# Altium schematic symbol library HT66FU50.SchLib: 2 symbols
Pins are listed as number, name and electrical type; pins without a type are passive.

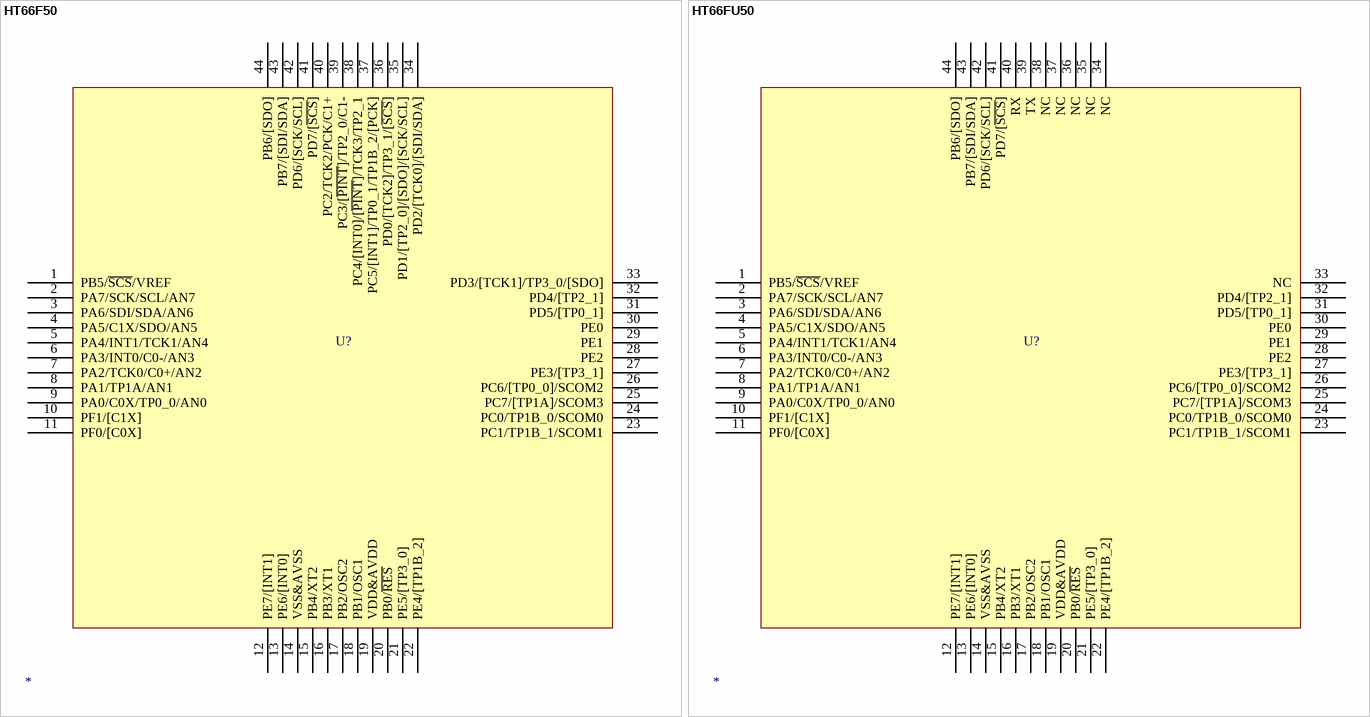
[diagram p0: symbols HT66F50 to HT66FU50]

## HT66F50
designator U?
Name: *
pins: 1 PB5/~{SCS}/VREF, 2 PA7/SCK/SCL/AN7, 3 PA6/SDI/SDA/AN6, 4 PA5/C1X/SDO/AN5, 5 PA4/INT1/TCK1/AN4, 6 PA3/INT0/C0-/AN3, 7 PA2/TCK0/C0+/AN2, 8 PA1/TP1A/AN1, 9 PA0/C0X/TP0_0/AN0, 10 PF1/[C1X], 11 PF0/[C0X], 12 PE7/[INT1], 13 PE6/[INT0], 14 VSS&AVSS, 15 PB4/XT2, 16 PB3/XT1, 17 PB2/OSC2, 18 PB1/OSC1, 19 VDD&AVDD, 20 PB0/~{RES}, 21 PE5/[TP3_0], 22 PE4/[TP1B_2], 23 PC1/TP1B_1/SCOM1, 24 PC0/TP1B_0/SCOM0, 25 PC7/[TP1A]/SCOM3, 26 PC6/[TP0_0]/SCOM2, 27 PE3/[TP3_1], 28 PE2, 29 PE1, 30 PE0, 31 PD5/[TP0_1], 32 PD4/[TP2_1], 33 PD3/[TCK1]/TP3_0/[SDO], 34 PD2/[TCK0]/[SDI/SDA], 35 PD1/[TP2_0]/[SDO]/[SCK/SCL], 36 PD0/[TCK2]/TP3_1/[~{SCS}], 37 PC5/[INT1]/TP0_1/TP1B_2/[PCK], 38 PC4/[INT0]/[~{PINT}]/TCK3/TP2_1, 39 PC3/[~{PINT}]/TP2_0/C1-, 40 PC2/TCK2/PCK/C1+, 41 PD7/[~{SCS}], 42 PD6/[SCK/SCL], 43 PB7/[SDI/SDA], 44 PB6/[SDO]

## HT66FU50
designator U?
Name: *
pins: 1 PB5/~{SCS}/VREF, 2 PA7/SCK/SCL/AN7, 3 PA6/SDI/SDA/AN6, 4 PA5/C1X/SDO/AN5, 5 PA4/INT1/TCK1/AN4, 6 PA3/INT0/C0-/AN3, 7 PA2/TCK0/C0+/AN2, 8 PA1/TP1A/AN1, 9 PA0/C0X/TP0_0/AN0, 10 PF1/[C1X], 11 PF0/[C0X], 12 PE7/[INT1], 13 PE6/[INT0], 14 VSS&AVSS, 15 PB4/XT2, 16 PB3/XT1, 17 PB2/OSC2, 18 PB1/OSC1, 19 VDD&AVDD, 20 PB0/~{RES}, 21 PE5/[TP3_0], 22 PE4/[TP1B_2], 23 PC1/TP1B_1/SCOM1, 24 PC0/TP1B_0/SCOM0, 25 PC7/[TP1A]/SCOM3, 26 PC6/[TP0_0]/SCOM2, 27 PE3/[TP3_1], 28 PE2, 29 PE1, 30 PE0, 31 PD5/[TP0_1], 32 PD4/[TP2_1], 33 NC, 34 NC, 35 NC, 36 NC, 37 NC, 38 NC, 39 TX, 40 RX, 41 PD7/[~{SCS}], 42 PD6/[SCK/SCL], 43 PB7/[SDI/SDA], 44 PB6/[SDO]